# Altium footprint library AliPadash_New.PcbLib: 58 footprints (part 1 of 4)
Each footprint in its own frame and in the unit in brackets; x right, y up, seen from the top. Pads: shape width x height; smd on the part's side, far side on the other; paste and mask are expansions set on the pad; w line width, h text height; cw(c..) or ccw(c..) is an arc to the next point about the centre after c.
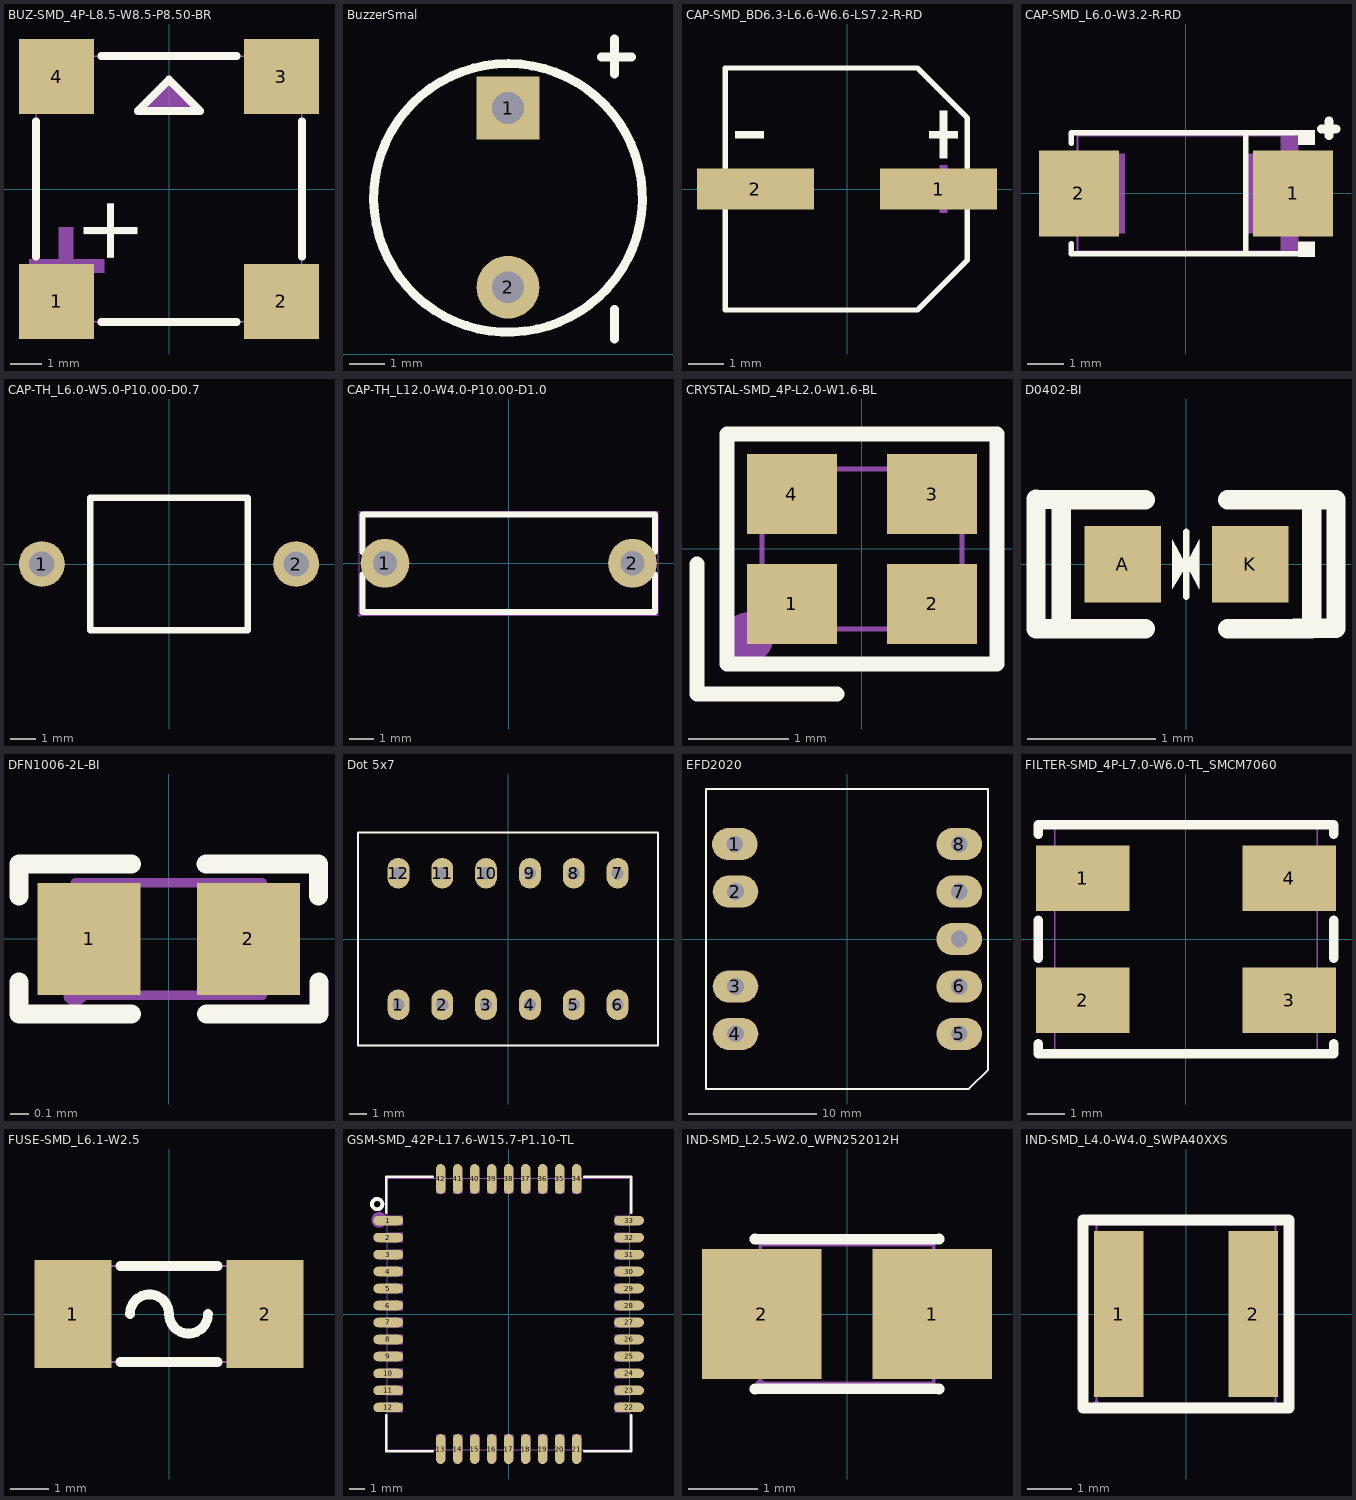
[diagram p0: the footprints below, top view; thin cyan lines are the x and y axes]

## BUZ-SMD_4P-L8.5-W8.5-P8.50-BR [mm]
pads (4):
  rect 2.4x2.4 smd paste+0 mask+0.051: 1(-3.6,-3.6) 2(3.6,-3.6) 3(3.6,3.6) 4(-3.6,3.6)
Top Overlay:
  lines w0.254: -4.25,-2.169 -4.25,2.169 ; -2.169,-4.25 2.169,-4.25 ; -2.169,4.25 2.168,4.25 ; 4.25,-2.169 4.25,2.169 ; -1,2.5 1,2.5 0,3.5 -1,2.5
  text "+" at -1,-2.5 h2.03
Mechanical 6:
  region: -4.48,-2.68 -4.48,-2.24 -2.08,-2.24 -2.08,-2.7
  region: -3.08,-3.617 -3.52,-3.617 -3.52,-1.217 -3.06,-1.217
  region: -1,2.48 0.94,2.48 -0.04,3.46
Mechanical 15:
  region: -4.19,-4.25 -4.19,-4.225 -4.225,-4.19 -4.275,-4.19 -4.31,-4.225 -4.31,-4.25 -4.31,-4.275 -4.275,-4.31 -4.225,-4.31 -4.19,-4.275
  region: -4.25,-4.25 -4.25,-3.05 -3.05,-3.05 -3.05,-4.25
  region: -4.25,3.05 -4.25,4.25 -3.05,4.25 -3.05,3.05
  region: 3.05,3.05 3.05,4.25 4.25,4.25 4.25,3.05
  region: 3.05,-4.25 3.05,-3.05 4.25,-3.05 4.25,-4.25
  lines w0.051: -4.25,-4.25 -4.25,4.25 4.25,4.25 4.25,-4.25 -4.25,-4.25

## BuzzerSmal [mil]
pads (2):
  rect 70x70 hole 35.43: 1(-440.12,274.78)
  round 70 hole 35.43: 2(-440.12,74.78)
Top Overlay:
  lines w10: -335.76,331.66 -301.93,331.66 ; -321.42,16.96 -321.42,50 ; -321.42,313 -321.42,351.93 ; -426.22,323.81 ccw(c-440.12,174.45) -421.09,25.66 ccw(c-440.12,174.45) -426.22,323.81

## CAP-SMD_BD6.3-L6.6-W6.6-LS7.2-R-RD [mm]
pads (2):
  rect 3.26x1.15 smd paste+0 mask+0.051: 1(2.555,0) 2(-2.555,0)
Top Overlay:
  region: 2.79,0.858 2.79,2.178 2.592,2.178 2.592,0.858
  region: 3.087,1.419 3.087,1.617 2.295,1.617 2.295,1.419
  region: -3.117,1.419 -3.117,1.617 -2.325,1.617 -2.325,1.419
  lines w0.152: -3.391,-0.607 -3.391,-3.376 1.965,-3.376 3.361,-1.98 3.361,-0.607 ; -3.391,0.607 -3.391,3.376 1.965,3.376 3.361,1.98 3.361,0.607
Mechanical 15:
  region: 2.79,-0.66 2.79,0.66 2.592,0.66 2.592,-0.66
  region: 3.087,-0.099 3.087,0.099 2.295,0.099 2.295,-0.099
  region: -3.117,-0.099 -3.117,0.099 -2.325,0.099 -2.325,-0.099

## CAP-SMD_L6.0-W3.2-R-RD [mm]
pads (2):
  rect 2.207x2.376 smd: 1(2.961,0) 2(-2.961,0)
Top Overlay:
  region: 3.1,1.752 3.1,1.34 3.557,1.34 3.557,1.752
  region: 3.1,-1.752 3.1,-1.34 3.557,-1.34 3.557,-1.752
  lines w0.152: -3.176,-1.391 -3.176,-1.676 3.176,-1.676 ; -3.176,1.391 -3.176,1.676 3.176,1.676 ; 1.654,-1.676 1.654,1.676
  lines w0.254: 3.751,1.785 4.143,1.785 ; 3.957,1.603 3.957,1.996
Mechanical 6:
  region: -2.86,-0.12 -2.86,0.12 -1.9,0.12 -1.9,-0.12
  region: 2.86,-0.12 2.86,0.12 1.9,0.12 1.9,-0.12
  region: 2.5,-0.8 2.5,0.8 2.26,0.8 2.26,-0.8
  region: 3.1,-1.6 3.1,-0.8 2.62,-0.8 2.62,-1.6
  region: 3.1,1.6 3.1,0.8 2.62,0.8 2.62,1.6
Mechanical 15:
  region: 3.06,-1.6 3.06,-1.575 3.025,-1.54 2.975,-1.54 2.94,-1.575 2.94,-1.6 2.94,-1.625 2.975,-1.66 3.025,-1.66 3.06,-1.625
  region: -3,-1.1 -3,1.1 -1.7,1.1 -1.7,-1.1
  region: 3,-1.1 3,1.1 1.7,1.1 1.7,-1.1
  lines w0.051: -3,-1.6 -3,1.6 3,1.6 3,-1.6 -3,-1.6

## CAP-TH_L6.0-W5.0-P10.00-D0.7 [mm]
pads (2):
  round 1.8 hole 1 paste-2539.97 mask+0.051: 1(-5,0) 2(5,0)
Top Overlay:
  lines w0.254: -3.1,-2.6 -3.1,2.6 3.1,2.6 3.1,-2.6 -3.1,-2.6

## CAP-TH_L12.0-W4.0-P10.00-D1.0 [mm]
pads (2):
  round 2 hole 1 paste-2539.97 mask+0.051: 1(-5.08,0) 2(5.08,0)
Top Overlay:
  lines w0.254: -6,-0.463 -6,-2 6,-2 ; -6,0.463 -6,2 6,2 6,0.463 ; 6,-1.905 6,-0.463
Mechanical 15:
  region: -6.067,-2.127 -6.067,-2.102 -6.102,-2.067 -6.152,-2.067 -6.187,-2.102 -6.187,-2.127 -6.187,-2.152 -6.152,-2.187 -6.102,-2.187 -6.067,-2.152
  region: -4.68,0 -4.68,0.08 -4.741,0.227 -4.853,0.339 -5.001,0.4 -5.16,0.4 -5.307,0.339 -5.419,0.227 -5.48,0.08 -5.48,0 -5.48,-0.08 -5.419,-0.227 -5.307,-0.339 -5.16,-0.4 -5,-0.4 -4.853,-0.339 -4.741,-0.227 -4.68,-0.08
  region: 5.48,0 5.48,0.08 5.419,0.227 5.307,0.339 5.159,0.4 5,0.4 4.853,0.339 4.741,0.227 4.68,0.08 4.68,0 4.68,-0.08 4.741,-0.227 4.853,-0.339 5,-0.4 5.16,-0.4 5.307,-0.339 5.419,-0.227 5.48,-0.08
  lines w0.051: -6.127,-2.127 -6.127,2.127 6.127,2.127 6.127,-2.127 -6.127,-2.127

## CRYSTAL-SMD_4P-L2.0-W1.6-BL [mm]
pads (4):
  rect 0.9x0.8 smd: 1(-0.7,-0.55) 2(0.7,-0.55) 3(0.7,0.55) 4(-0.7,0.55)
Top Overlay:
  lines w0.152: -1.65,-0.15 -1.65,-1.45 -0.25,-1.45 ; -1.35,-1.15 1.35,-1.15 1.35,1.15 -1.35,1.15 -1.35,-1.15
Mechanical 6:
  circle w0.254: c-1.143,-0.889 r0.127
Mechanical 15:
  region: -0.94,-0.8 -0.941,-0.776 -0.975,-0.741 -1.024,-0.741 -1.059,-0.776 -1.06,-0.8 -1.059,-0.824 -1.025,-0.859 -0.976,-0.859 -0.941,-0.825
  region: -0.95,0.275 -0.95,0.75 -0.375,0.75 -0.375,0.275
  region: -0.95,-0.75 -0.95,-0.275 -0.375,-0.275 -0.375,-0.75
  region: 0.95,-0.275 0.95,-0.75 0.375,-0.75 0.375,-0.275
  region: 0.95,0.75 0.95,0.275 0.375,0.275 0.375,0.75
  lines w0.051: -1,-0.8 -1,0.8 1,0.8 1,-0.8 -1,-0.8

## D0402-BI [mm]
pads (2):
  rect 0.6x0.6 smd paste-100 mask+0.051: A(-0.5,0) K(0.5,0)
Top Overlay:
  region: 0,0 0.1,0.19 0.1,-0.19
  region: 0,-0.01 -0.11,-0.19 -0.11,-0.01 -0.11,0.19
  lines w0.051: 0,-0.254 0,0.254
  lines w0.152: -1.17,-0.504 -0.981,-0.504 ; -0.975,-0.504 -1.178,-0.504 -1.178,0.508 -0.981,0.504 ; -0.324,0.504 -0.981,0.504 ; 0.324,-0.504 0.981,-0.504 0.981,0.504 ; 0.324,0.504 0.981,0.504 ; 0.847,-0.5 1.17,-0.5 1.17,0.504 0.981,0.504 ; -0.981,-0.504 -0.981,0.504 ; -0.981,-0.504 -0.324,-0.504 -0.981,-0.504 ; -0.981,-0.504 -0.981,0.504
Top Paste:
  region: 0.78,0.225 0.78,-0.225 0.73,-0.275 0.25,-0.275 0.18,-0.225 0.18,0.225 0.25,0.275 0.73,0.275
  region: -0.18,0.225 -0.18,-0.225 -0.25,-0.275 -0.73,-0.275 -0.78,-0.225 -0.78,0.225 -0.73,0.275 -0.25,0.275
Mechanical 15:
  region: 0,0 0.1,0.19 0.1,-0.19
  region: 0,-0.01 -0.11,-0.19 -0.11,-0.01 -0.11,0.19

## DFN1006-2L-BI [mm]
pads (2):
  rect 0.55x0.6 smd: 1(-0.425,0) 2(0.425,0)
Top Overlay:
  lines w0.102: -0.8,-0.23 -0.8,-0.4 -0.2,-0.4 ; -0.8,0.229 -0.8,0.4 -0.2,0.4 ; 0.2,0.4 0.8,0.4 0.8,0.23 ; 0.203,-0.4 0.803,-0.4 0.803,-0.23
Mechanical 15:
  region: -0.44,-0.3 -0.441,-0.276 -0.476,-0.243 -0.524,-0.243 -0.559,-0.276 -0.56,-0.3 -0.559,-0.324 -0.524,-0.357 -0.476,-0.357 -0.441,-0.324
  region: -0.475,0.254 -0.225,0.254 -0.225,-0.254 -0.475,-0.254
  region: 0.225,0.254 0.475,0.254 0.475,-0.254 0.225,-0.254
  lines w0.051: -0.5,-0.3 0.5,-0.3 0.5,0.3 -0.5,0.3 -0.5,-0.3

## Dot 5x7 [mm]
pads (12):
  oval 1.27x1.778 hole 0.7: 1(-6.35,-3.81) 2(-3.81,-3.81) 3(-1.27,-3.81) 4(1.27,-3.81) 5(3.81,-3.81) 6(6.35,-3.81) 7(6.35,3.81) 8(3.81,3.81) 9(1.27,3.81) 10(-1.27,3.81) 11(-3.81,3.81) 12(-6.35,3.81)
Top Overlay:
  lines w0.127: -8.69,-6.17 8.69,-6.17 8.69,6.17 -8.69,6.17 -8.69,-6.17

## EFD2020 [mm]
pads (9):
  oval 3.55x2.5 hole 1.3: 1(-8.75,7.4) 2(-8.7,3.7) 3(-8.7,-3.7) 4(-8.7,-7.4) 5(8.75,-7.4) 6(8.75,-3.7) 7(8.75,3.7) 8(8.75,7.4) ""(8.75,0)
Top Overlay:
  lines w0.15: -11.006,-11.7 -11.006,11.7 ; -11,11.7 11,11.7 11,-10.196 9.5,-11.696 -10.906,-11.696

## FILTER-SMD_4P-L7.0-W6.0-TL_SMCM7060 [mm]
pads (4):
  rect 2.5x1.75 smd paste+0 mask+0.051: 1(-2.75,1.625) 2(-2.75,-1.625) 3(2.75,-1.625) 4(2.75,1.625)
Top Overlay:
  lines w0.254: -3.937,-2.794 -3.937,-3.048 3.937,-3.048 3.937,-2.794 ; -3.937,-0.508 -3.937,0.508 ; -3.937,2.794 -3.937,3.048 3.937,3.048 3.937,2.794 ; 3.937,-0.508 3.937,0.508
Mechanical 15:
  region: 3.5,-2.375 1.8,-2.375 1.8,-0.875 3.5,-0.875
  region: 3.5,0.875 1.8,0.875 1.8,2.375 3.5,2.375
  region: -3.5,-0.875 -1.8,-0.875 -1.8,-2.375 -3.5,-2.375
  region: -3.5,2.375 -1.8,2.375 -1.8,0.875 -3.5,0.875
  region: -3.44,3 -3.44,3.025 -3.475,3.06 -3.525,3.06 -3.56,3.025 -3.56,3 -3.56,2.975 -3.525,2.94 -3.475,2.94 -3.44,2.975
  lines w0.051: -3.5,-3 -3.5,3 3.5,3 3.5,-3 -3.5,-3

## FUSE-SMD_L6.1-W2.5 [mm]
pads (2):
  rect 2x2.8 smd paste+0 mask+0.051: 1(-2.5,0) 2(2.5,0)
Top Overlay:
  lines w0.254: -1.269,-1.25 1.269,-1.25 ; -1.269,1.25 1.269,1.25 ; -1.016,0 cw(c-0.508,0) 0,0 ccw(c0.508,0) 1.016,0
Mechanical 15:
  region: -2.993,1.256 -2.993,1.281 -3.029,1.316 -3.078,1.316 -3.114,1.281 -3.114,1.256 -3.114,1.231 -3.078,1.196 -3.029,1.196 -2.993,1.231
  region: -3.05,1.25 -1.65,1.25 -1.65,-1.25 -3.05,-1.25
  region: 1.65,1.25 3.05,1.25 3.05,-1.25 1.65,-1.25
  lines w0.051: -3.05,-1.25 -3.05,1.25 3.05,1.25 3.05,-1.25 -3.05,-1.25

## GSM-SMD_42P-L17.6-W15.7-P1.10-TL [mm]
pads (42):
  oval 1.933x0.616 smd paste+0 mask+0.051: 1(-7.791,6.05) 2(-7.791,4.95) 3(-7.791,3.85) 4(-7.791,2.75) 5(-7.791,1.65) 6(-7.791,0.55) 7(-7.791,-0.55) 8(-7.791,-1.65) 9(-7.791,-2.75) 10(-7.791,-3.85) 11(-7.791,-4.95) 12(-7.791,-6.05) 22(7.791,-6.05) 23(7.791,-4.95) 24(7.791,-3.85) 25(7.791,-2.75) 26(7.791,-1.65) 27(7.791,-0.55) 28(7.791,0.55) 29(7.791,1.65) 30(7.791,2.75) 31(7.791,3.85) 32(7.791,4.95) 33(7.791,6.05)
  oval 0.616x1.933 smd paste+0 mask+0.051: 13(-4.4,-8.741) 14(-3.3,-8.741) 15(-2.2,-8.741) 16(-1.1,-8.741) 17(0,-8.741) 18(1.1,-8.741) 19(2.2,-8.741) 20(3.3,-8.741) 21(4.4,-8.741) 34(4.4,8.741) 35(3.3,8.741) 36(2.2,8.741) 37(1.1,8.741) 38(0,8.741) 39(-1.1,8.741) 40(-2.2,8.741) 41(-3.3,8.741) 42(-4.4,8.741)
Top Overlay:
  circle w0.25: c-8.509,7.112 r0.335
  lines w0.152: -7.926,-6.549 -7.926,-8.876 -4.898,-8.876 ; -7.926,6.549 -7.926,8.876 -4.898,8.876 ; 4.898,-8.876 7.926,-8.876 7.926,-6.549 ; 4.898,8.876 7.926,8.876 7.926,6.549
Mechanical 6:
  circle w0.5: c-8.382,6.096 r0.25
Mechanical 15:
  drawing of 47 lines, arcs and shapes, not listed

## IND-SMD_L2.5-W2.0_WPN252012H [mm]
pads (2):
  rect 1.724x1.87 smd paste+0 mask+0.051: 1(1.228,0) 2(-1.228,0)
Top Overlay:
  lines w0.152: -1.326,-1.087 -1.326,-1.076 1.326,-1.076 1.326,-1.087 ; -1.326,1.087 -1.326,1.076 1.326,1.076 1.326,1.087
Mechanical 15:
  region: -1.19,-1 -1.191,-0.976 -1.226,-0.943 -1.274,-0.943 -1.309,-0.976 -1.31,-1 -1.309,-1.024 -1.274,-1.058 -1.226,-1.058 -1.191,-1.024
  region: 0.45,0.825 1.25,0.825 1.25,-0.825 0.45,-0.825
  region: -0.45,-0.825 -1.25,-0.825 -1.25,0.825 -0.45,0.825
  lines w0.051: -1.25,-1 -1.25,1 1.25,1 1.25,-1 -1.25,-1

## IND-SMD_L4.0-W4.0_SWPA40XXS [mm]
pads (2):
  rect 1.1x3.7 smd paste+0 mask+0.051: 1(-1.5,0) 2(1.5,0)
Top Overlay:
  lines w0.254: -2.3,-2.1 2.3,-2.1 2.3,2.1 -2.3,2.1 -2.3,-2.1
Mechanical 15:
  region: -1.94,-2 -1.94,-1.976 -1.975,-1.941 -2.024,-1.941 -2.059,-1.975 -2.06,-2 -2.059,-2.024 -2.025,-2.059 -1.976,-2.059 -1.941,-2.024
  region: 1.025,1.65 1.975,1.65 1.975,-1.65 1.025,-1.65
  region: -1.975,1.65 -1.025,1.65 -1.025,-1.65 -1.975,-1.65
  lines w0.051: -2,-2 -2,2 2,2 2,-2 -2,-2